# EAGLE library part CON_SPI_AVR10 (library Bauelemente)
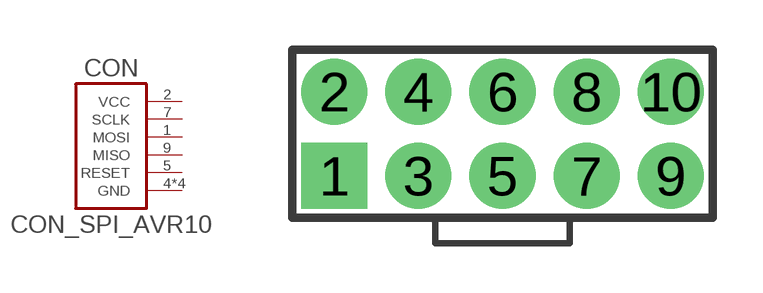
[diagram p3: symbol with the pads of CON_ISP_AVR10; footprint CON_ISP_AVR10]

Designator prefix CON

## CON_SPI_AVR10  [CON_ISP_AVR10]
1  MOSI  in
2  VCC  sup
4  GND  sup
5  RESET  hiz
6  GND  sup
7  SCLK  in
8  GND  sup
9  MISO  out
10  GND  sup

## Footprint CON_ISP_AVR10 (pad centres in mm)
PIN HEADER AVR ISP 10 Pin, 0.1" Straight
drill 1.1 pad 2 square: 1 -5.08,-1.27
drill 1.1 pad 2: 2 -5.08,1.27; 3 -2.54,-1.27; 4 -2.54,1.27; 5 0,-1.27; 6 0,1.27; 7 2.54,-1.27; 8 2.54,1.27; 9 5.08,-1.27; 10 5.08,1.27